# Altium footprint library PCBLib.PcbLib: 43 footprints (part 1 of 3)
Each footprint in its own frame and in the unit in brackets; x right, y up, seen from the top. Pads: shape width x height; smd on the part's side, far side on the other; paste and mask are expansions set on the pad; w line width, h text height; cw(c..) or ccw(c..) is an arc to the next point about the centre after c.
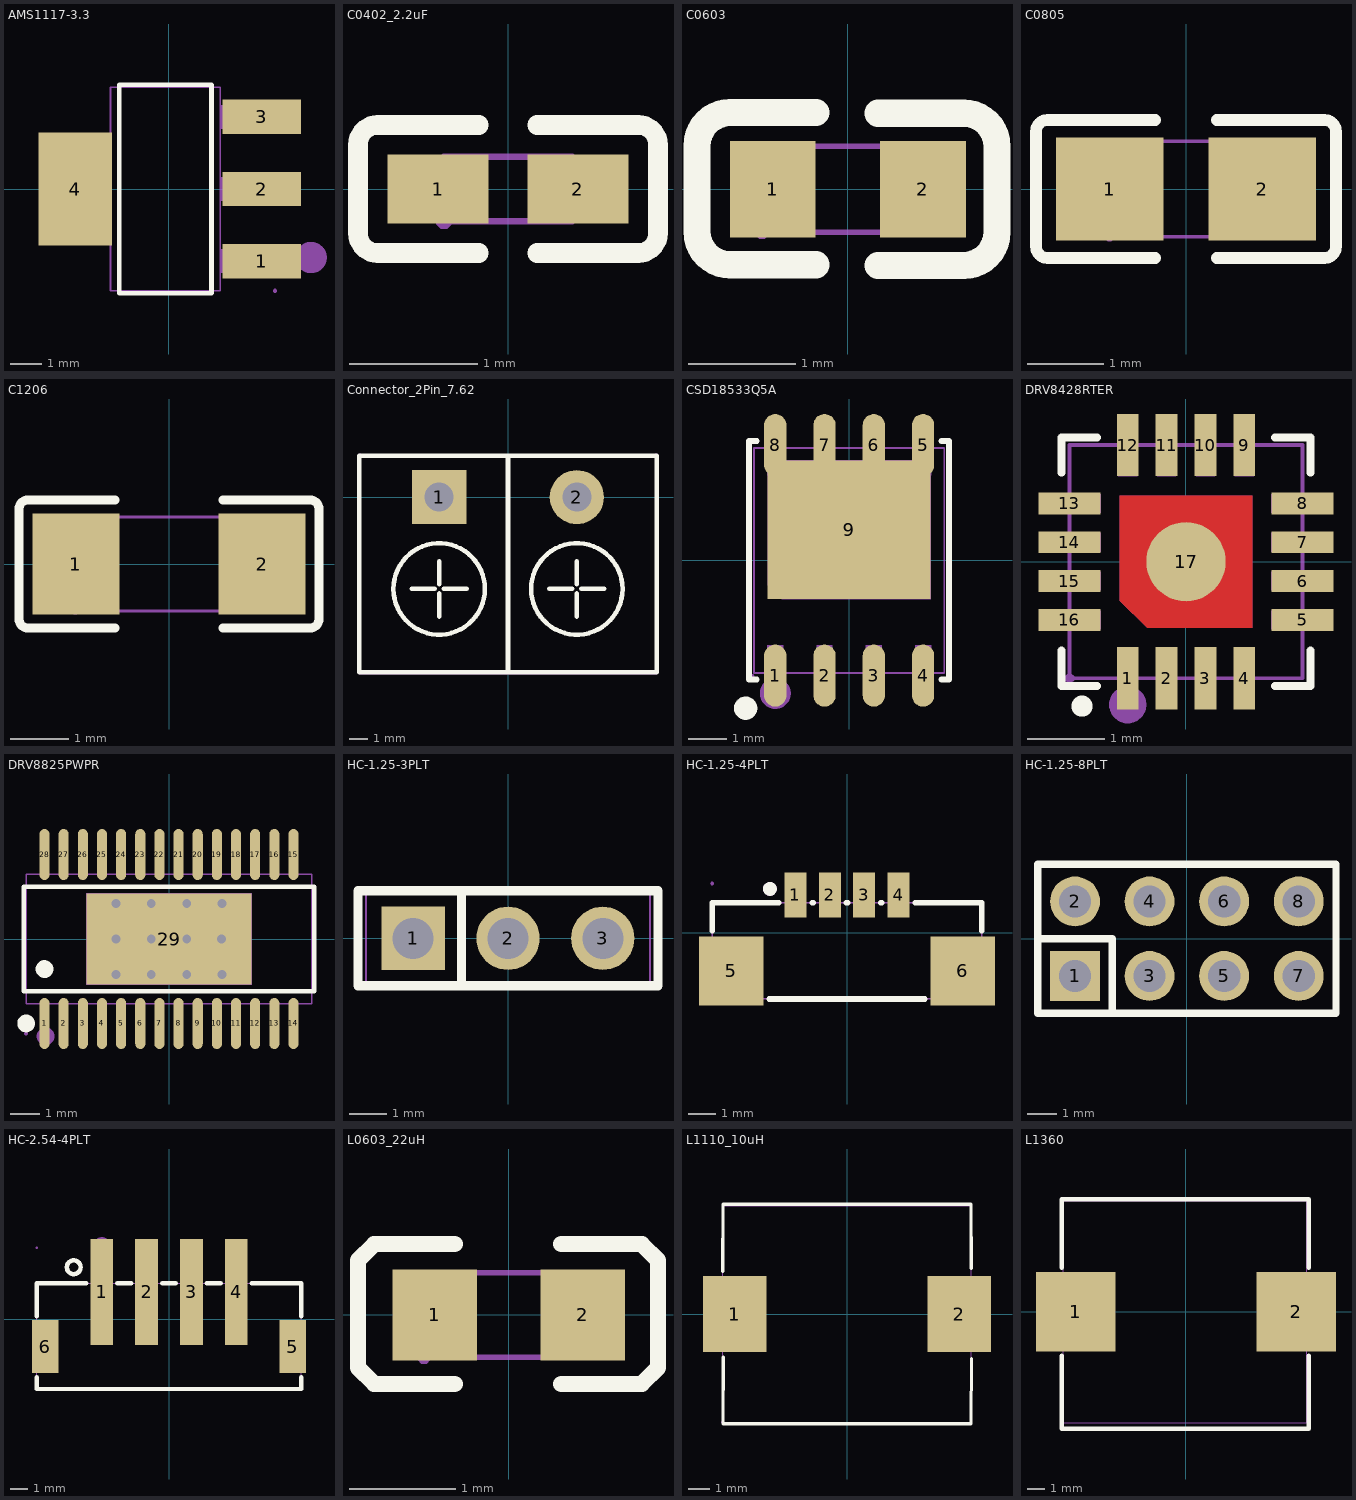
[diagram p0: the footprints below, top view; thin cyan lines are the x and y axes]

## AMS1117-3.3 [mm] "SOT-223-3_L6.5-W3.4-P2.30-LS7.0-BR"
pads (4):
  rect 2.5x1.1 smd: 1(2.97,-2.3) 2(2.97,0) 3(2.97,2.3)
  rect 2.34x3.6 smd: 4(-2.97,0)
Top Overlay:
  lines w0.152: -1.571,-3.326 -1.571,3.326 1.371,3.326 1.371,-3.326 -1.571,-3.326
Mechanical 6:
  circle w0.5: c4.552,-2.188 r0.25
Mechanical 15:
  region: 3.46,-3.25 3.46,-3.225 3.425,-3.19 3.375,-3.19 3.34,-3.225 3.34,-3.25 3.34,-3.275 3.375,-3.31 3.425,-3.31 3.46,-3.275 3.46,-3.25
  region: 1.64,1.925 1.64,2.675 2.66,2.675 2.66,1.925
  region: 2.65,1.925 2.65,2.675 3.4,2.675 3.4,1.925
  region: 1.64,-0.375 1.64,0.375 2.66,0.375 2.66,-0.375
  region: 2.65,-0.375 2.65,0.375 3.4,0.375 3.4,-0.375
  region: 1.64,-2.675 1.64,-1.925 2.66,-1.925 2.66,-2.675
  region: 2.65,-2.675 2.65,-1.925 3.4,-1.925 3.4,-2.675
  region: -2.86,-1.5 -2.86,1.5 -1.84,1.5 -1.84,-1.5
  region: -3.6,-1.5 -3.6,1.5 -2.85,1.5 -2.85,-1.5
  lines w0.051: -1.85,-3.25 -1.85,3.25 1.65,3.25 1.65,-3.25 -1.85,-3.25

## C0402_2.2uF [mm] "C0402"
pads (2):
  rect 0.79x0.54 smd paste-100 mask+0.051: 1(-0.545,0) 2(0.545,0)
Top Overlay:
  lines w0.152: -0.226,-0.499 -1.016,-0.499 cw(c-1.016,-0.346) -1.169,-0.346 -1.169,0.346 cw(c-1.016,0.346) -1.016,0.499 -0.226,0.499 ; 0.226,-0.499 1.016,-0.499 ccw(c1.016,-0.346) 1.169,-0.346 1.169,0.346 ccw(c1.016,0.346) 1.016,0.499 0.226,0.499
Top Paste:
  region: 0.78,0.225 0.78,-0.225 0.73,-0.275 0.25,-0.275 0.18,-0.225 0.18,0.225 0.25,0.275 0.73,0.275
  region: -0.18,0.225 -0.18,-0.225 -0.25,-0.275 -0.73,-0.275 -0.78,-0.225 -0.78,0.225 -0.73,0.275 -0.25,0.275
Mechanical 15:
  region: 0.5,-0.25 0.5,0.25 0.25,0.25 0.25,-0.25
  region: -0.5,-0.25 -0.5,0.25 -0.25,0.25 -0.25,-0.25
  region: -0.44,-0.25 -0.44,-0.225 -0.475,-0.19 -0.525,-0.19 -0.56,-0.225 -0.56,-0.25 -0.56,-0.275 -0.525,-0.31 -0.475,-0.31 -0.44,-0.275 -0.44,-0.25
  lines w0.051: -0.5,-0.25 0.5,-0.25 0.5,0.25 -0.5,0.25 -0.5,-0.25

## C0603 [mm] "C0603"
pads (2):
  rect 0.8x0.9 smd: 1(-0.7,0) 2(0.7,0)
Top Overlay:
  lines w0.254: -0.296,-0.704 -1.096,-0.704 cw(c-1.096,-0.394) -1.406,-0.394 -1.405,0.406 cw(c-1.096,0.406) -1.096,0.715 -0.296,0.715 ; 0.28,-0.71 1.08,-0.71 ccw(c1.08,-0.4) 1.39,-0.4 1.39,0.4 ccw(c1.08,0.4) 1.08,0.71 0.28,0.71
Mechanical 15:
  region: -0.74,-0.4 -0.74,-0.375 -0.775,-0.34 -0.825,-0.34 -0.86,-0.375 -0.86,-0.4 -0.86,-0.425 -0.825,-0.46 -0.775,-0.46 -0.74,-0.425 -0.74,-0.4
  region: -0.8,-0.4 -0.8,0.4 -0.5,0.4 -0.5,-0.4
  region: 0.8,-0.4 0.8,0.4 0.5,0.4 0.5,-0.4
  lines w0.051: -0.8,-0.4 -0.8,0.4 0.8,0.4 0.8,-0.4 -0.8,-0.4

## C0805 [mm] "C0805"
pads (2):
  rect 1.41x1.35 smd paste-100 mask+0.051: 1(-1,0) 2(1,0)
Top Overlay:
  lines w0.152: -0.401,-0.904 -1.811,-0.904 cw(c-1.811,-0.751) -1.964,-0.751 -1.964,0.751 cw(c-1.811,0.751) -1.811,0.904 -0.401,0.904 ; 0.401,-0.904 1.811,-0.904 ccw(c1.811,-0.751) 1.964,-0.751 1.964,0.751 ccw(c1.811,0.751) 1.811,0.904 0.401,0.904
Top Paste:
  region: -1.705,-0.64 -1.705,0.64 -1.655,0.69 -0.505,0.69 -0.455,0.64 -0.45,0.23 -0.9,0.23 -0.9,-0.22 -0.46,-0.22 -0.455,-0.64 -0.505,-0.69 -1.655,-0.69
  region: 1.705,0.64 1.705,-0.64 1.655,-0.69 0.505,-0.69 0.455,-0.64 0.45,-0.23 0.9,-0.23 0.9,0.22 0.46,0.22 0.455,0.64 0.505,0.69 1.655,0.69
Mechanical 15:
  region: -0.94,-0.625 -0.941,-0.601 -0.976,-0.568 -1.024,-0.568 -1.059,-0.601 -1.06,-0.625 -1.059,-0.649 -1.024,-0.683 -0.976,-0.683 -0.941,-0.649 -0.94,-0.625
  region: -1,-0.625 -1,0.625 -0.5,0.625 -0.5,-0.625
  region: 1,0.625 1,-0.625 0.5,-0.625 0.5,0.625
  lines w0.051: -1,-0.625 -1,0.625 1,0.625 1,-0.625 -1,-0.625

## C1206 [mm] "C1206"
pads (2):
  rect 1.485x1.728 smd paste-100 mask+0.051: 1(-1.593,0) 2(1.593,0)
Top Overlay:
  lines w0.152: -0.926,-1.093 -2.411,-1.093 cw(c-2.411,-0.94) -2.564,-0.94 -2.564,0.94 cw(c-2.411,0.94) -2.411,1.093 -0.926,1.093 ; 0.926,-1.093 2.411,-1.093 ccw(c2.411,-0.94) 2.564,-0.94 2.564,0.94 ccw(c2.411,0.94) 2.411,1.093 0.926,1.093
Top Paste:
  region: 0.85,-0.764 0.85,-0.394 0.95,-0.294 1.255,-0.294 1.355,-0.194 1.355,0.194 1.255,0.294 0.95,0.294 0.85,0.394 0.85,0.764 0.95,0.864 2.235,0.864 2.335,0.764 2.335,-0.764 2.235,-0.864 0.95,-0.864
  region: -0.85,-0.764 -0.85,-0.394 -0.95,-0.294 -1.255,-0.294 -1.355,-0.194 -1.355,0.194 -1.255,0.294 -0.95,0.294 -0.85,0.394 -0.85,0.764 -0.95,0.864 -2.235,0.864 -2.335,0.764 -2.335,-0.764 -2.235,-0.864 -0.95,-0.864
Mechanical 15:
  region: -1.54,-0.8 -1.541,-0.776 -1.576,-0.742 -1.624,-0.742 -1.659,-0.776 -1.66,-0.8 -1.659,-0.824 -1.624,-0.858 -1.576,-0.858 -1.541,-0.824 -1.54,-0.8
  region: -1.6,-0.8 -1.6,0.8 -1.1,0.8 -1.1,-0.8
  region: 1.6,-0.8 1.6,0.8 1.1,0.8 1.1,-0.8
  lines w0.051: -1.6,-0.8 -1.6,0.8 1.6,0.8 1.6,-0.8 -1.6,-0.8

## Connector_2Pin_7.62 [mm] "CONN-TH_KF7.62-2P"
pads (2):
  rect 3x3 hole 1.6: 1(-3.81,0)
  round 3 hole 1.6: 2(3.81,0)
Top Overlay:
  circle w0.254: c3.81,-5.08 r2.53
  circle w0.254: c-3.81,-5.08 r2.53
  lines w0.254: -5.334,-5.08 -4.064,-5.08 ; -3.81,-6.604 -3.81,-5.334 ; -3.81,-4.826 -3.81,-3.556 ; -3.556,-5.08 -2.286,-5.08 ; 0,-9.7 0,2.159 ; 2.286,-5.08 3.556,-5.08 ; 3.81,-6.604 3.81,-5.334 ; 3.81,-4.826 3.81,-3.556 ; 4.064,-5.08 5.334,-5.08 ; -8.22,-9.7 8.22,-9.7 8.22,2.3 -8.22,2.3 -8.22,-9.7
Mechanical 6:
  region: -8.14,2.22 -8.14,-9.63 -0.03,-9.63 0,-9.6 0,-9.8 -8.2,-9.8 -8.3,-9.7 -8.3,2.35 -8.25,2.4 -8.15,2.4
  region: 8.14,2.22 8.14,-9.63 0.03,-9.63 0,-9.6 0,-9.8 8.2,-9.8 8.3,-9.7 8.3,2.35 8.25,2.4 8.15,2.4
Mechanical 15:
  region: -4.31,0.35 -3.31,0.35 -3.31,-0.35 -4.31,-0.35
  region: 3.31,0.35 4.31,0.35 4.31,-0.35 3.31,-0.35
  region: -8.16,-9.7 -8.161,-9.676 -8.196,-9.642 -8.244,-9.642 -8.279,-9.676 -8.28,-9.7 -8.279,-9.724 -8.244,-9.758 -8.196,-9.758 -8.161,-9.724 -8.16,-9.7
  lines w0.051: -8.22,-9.7 -8.22,2.3 8.22,2.3 8.22,-9.7 -8.22,-9.7

## CSD18533Q5A [mm] "PQFN-8_L5.8-W4.9-P1.27-LS6.0-BL"
pads (9):
  oval 0.574x1.6 smd paste-100 mask+0.051: 1(-1.905,-2.97) 2(-0.635,-2.97) 3(0.635,-2.97) 4(1.905,-2.97) 5(1.905,2.97) 6(0.635,2.97) 7(-0.635,2.97) 8(-1.905,2.97)
  rect 4.2x3.58 smd paste-100 mask+0.051: 9(0,0.788)
Top Overlay:
  circle w0.3: c-2.667,-3.81 r0.15
  lines w0.152: -2.382,-3.076 -2.576,-3.076 -2.576,3.076 -2.382,3.076 ; 2.382,-3.076 2.576,-3.076 2.576,3.076 2.382,3.076
Top Paste:
  drawing of 5 lines, arcs and shapes, not listed
Mechanical 6:
  circle w0.4: c-1.905,-3.429 r0.2
Mechanical 15:
  region: -2.1,-0.644 -2.1,2.578 2.1,2.578 2.1,-1.002 -1.742,-1.002
  region: -2.11,3 -2.11,2.195 -1.7,2.195 -1.7,3
  region: -0.84,3 -0.84,2.195 -0.43,2.195 -0.43,3
  region: 0.43,3 0.43,2.195 0.84,2.195 0.84,3
  region: 1.7,3 1.7,2.195 2.11,2.195 2.11,3
  region: 1.7,-3 1.7,-2.195 2.11,-2.195 2.11,-3
  region: 0.43,-3 0.43,-2.195 0.84,-2.195 0.84,-3
  region: -0.84,-3 -0.84,-2.195 -0.43,-2.195 -0.43,-3
  region: -2.11,-3 -2.11,-2.195 -1.7,-2.195 -1.7,-3
  region: -2.44,-3 -2.44,-2.976 -2.475,-2.941 -2.524,-2.941 -2.559,-2.976 -2.56,-3 -2.559,-3.024 -2.524,-3.059 -2.475,-3.059 -2.44,-3.024 -2.44,-3
  lines w0.051: -2.45,-2.9 2.45,-2.9 2.45,2.9 -2.45,2.9 -2.45,-2.9

## DRV8428RTER [mm] "WQFN-16_L3.0-W3.0-P0.50-BL-EP1.7"
pads (17):
  rect 0.28x0.8 smd paste-100 mask+0.051: 1(-0.75,-1.5) 2(-0.25,-1.5) 3(0.25,-1.5) 4(0.75,-1.5) 9(0.75,1.5) 10(0.25,1.5) 11(-0.25,1.5) 12(-0.75,1.5)
  rect 0.8x0.28 smd paste-100 mask+0.051: 5(1.5,-0.75) 6(1.5,-0.25) 7(1.5,0.25) 8(1.5,0.75) 13(-1.5,0.75) 14(-1.5,0.25) 15(-1.5,-0.25) 16(-1.5,-0.75)
  round 1.02 smd: 17(0,0)
Top Layer:
  region: -0.85,0.85 0.85,0.85 0.85,-0.85 -0.5,-0.85 -0.85,-0.5
Top Overlay:
  lines w0.102: -1.6,-1.144 -1.6,-1.6 -1.144,-1.6 ; -1.6,1.144 -1.6,1.6 -1.144,1.6 ; 1.144,-1.6 1.6,-1.6 1.6,-1.144 ; 1.144,1.6 1.6,1.6 1.6,1.144
  lines w0.25: -1.34,-1.85 ccw(c-1.339,-1.86) -1.339,-1.87 ccw(c-1.339,-1.86) -1.337,-1.85
Top Paste:
  region: -0.89,-1.1 -0.61,-1.1 -0.61,-1.9 -0.89,-1.9
  region: -0.39,-1.1 -0.11,-1.1 -0.11,-1.9 -0.39,-1.9
  region: 0.11,-1.1 0.39,-1.1 0.39,-1.9 0.11,-1.9
  region: 0.61,-1.1 0.89,-1.1 0.89,-1.9 0.61,-1.9
  region: 1.1,-0.61 1.9,-0.61 1.9,-0.89 1.1,-0.89
  region: 1.1,-0.11 1.9,-0.11 1.9,-0.39 1.1,-0.39
  region: 1.1,0.39 1.9,0.39 1.9,0.11 1.1,0.11
  region: 1.1,0.89 1.9,0.89 1.9,0.61 1.1,0.61
  region: 0.61,1.9 0.89,1.9 0.89,1.1 0.61,1.1
  region: 0.11,1.9 0.39,1.9 0.39,1.1 0.11,1.1
  region: -0.39,1.9 -0.11,1.9 -0.11,1.1 -0.39,1.1
  region: -0.89,1.9 -0.61,1.9 -0.61,1.1 -0.89,1.1
  region: -1.9,0.89 -1.1,0.89 -1.1,0.61 -1.9,0.61
  region: -1.9,0.39 -1.1,0.39 -1.1,0.11 -1.9,0.11
  region: -1.9,-0.11 -1.1,-0.11 -1.1,-0.39 -1.9,-0.39
  region: -1.9,-0.61 -1.1,-0.61 -1.1,-0.89 -1.9,-0.89
  region: -0.68,0.68 0.68,0.68 0.68,-0.68 -0.4,-0.68 -0.68,-0.4
Mechanical 6:
  circle w0.24: c-0.75,-1.84 r0.12
Mechanical 15:
  region: -1.5,-0.87 -1.5,-0.63 -1.1,-0.63 -1.1,-0.87
  region: -1.5,-0.37 -1.5,-0.13 -1.1,-0.13 -1.1,-0.37
  region: -1.5,0.13 -1.5,0.37 -1.1,0.37 -1.1,0.13
  region: -1.5,0.63 -1.5,0.87 -1.1,0.87 -1.1,0.63
  region: -0.87,1.1 -0.87,1.5 -0.63,1.5 -0.63,1.1
  region: -0.37,1.1 -0.37,1.5 -0.13,1.5 -0.13,1.1
  region: 0.13,1.1 0.13,1.5 0.37,1.5 0.37,1.1
  region: 0.63,1.1 0.63,1.5 0.87,1.5 0.87,1.1
  region: 1.1,0.63 1.1,0.87 1.5,0.87 1.5,0.63
  region: 1.1,0.13 1.1,0.37 1.5,0.37 1.5,0.13
  region: 1.1,-0.37 1.1,-0.13 1.5,-0.13 1.5,-0.37
  region: 1.1,-0.87 1.1,-0.63 1.5,-0.63 1.5,-0.87
  region: 0.63,-1.5 0.63,-1.1 0.87,-1.1 0.87,-1.5
  region: 0.13,-1.5 0.13,-1.1 0.37,-1.1 0.37,-1.5
  region: -0.37,-1.5 -0.37,-1.1 -0.13,-1.1 -0.13,-1.5
  region: -0.87,-1.5 -0.87,-1.1 -0.63,-1.1 -0.63,-1.5
  region: -0.85,0.85 0.85,0.85 0.85,-0.85 -0.5,-0.85 -0.85,-0.5
  region: -1.44,-1.5 -1.441,-1.476 -1.476,-1.442 -1.524,-1.442 -1.559,-1.476 -1.56,-1.5 -1.559,-1.524 -1.524,-1.558 -1.476,-1.558 -1.441,-1.524 -1.44,-1.5
  lines w0.051: -1.5,-1.5 -1.5,1.5 1.5,1.5 1.5,-1.5 -1.5,-1.5

## DRV8825PWPR [mm] "HTSSOP-28_L9.7-W4.4-P0.65-LS6.4-BL-EP"
pads (29):
  oval 0.343x1.731 smd: 1(-4.225,-2.866) 2(-3.575,-2.866) 3(-2.925,-2.866) 4(-2.275,-2.866) 5(-1.625,-2.866) 6(-0.975,-2.866) 7(-0.325,-2.866) 8(0.325,-2.866) 9(0.975,-2.866) 10(1.625,-2.866) 11(2.275,-2.866) 12(2.925,-2.866) 13(3.575,-2.866) 14(4.225,-2.866) 15(4.225,2.866) 16(3.575,2.866) 17(2.925,2.866) 18(2.275,2.866) 19(1.625,2.866) 20(0.975,2.866) 21(0.325,2.866) 22(-0.325,2.866) 23(-0.975,2.866) 24(-1.625,2.866) 25(-2.275,2.866) 26(-2.925,2.866) 27(-3.575,2.866) 28(-4.225,2.866)
  rect 5.6x3.1 smd paste+0 mask+0.05: 29(0,0)
via 1.8,1.2 diameter 0.5 hole 0.3
via 0.6,1.2 diameter 0.5 hole 0.3
via 1.778,0 diameter 0.5 hole 0.3
via 0.6,0 diameter 0.5 hole 0.3
via -1.8,1.2 diameter 0.5 hole 0.3
via -1.8,0 diameter 0.5 hole 0.3
via -1.8,-1.2 diameter 0.5 hole 0.3
via -0.6,1.2 diameter 0.5 hole 0.3
via -0.6,-1.2 diameter 0.5 hole 0.3
via 0.6,-1.2 diameter 0.5 hole 0.3
via -0.6,0 diameter 0.5 hole 0.3
via 1.8,-1.2 diameter 0.5 hole 0.3
Top Overlay:
  circle w0.3: c-4.849,-2.866 r0.15
  circle w0.3: c-4.225,-1.019 r0.15
  lines w0.152: -4.926,-1.771 4.926,-1.771 4.926,1.772 -4.926,1.772 -4.926,-1.771
Mechanical 6:
  circle w0.3: c-4.191,-3.302 r0.15
Mechanical 15:
  drawing of 62 lines, arcs and shapes, not listed

## HC-1.25-3PLT [mm] "HDR-TH_3P-P2.54-V-M"
pads (3):
  rect 1.7x1.7 hole 1.1: 1(-2.54,0)
  round 1.7 hole 1.1: 2(0,0) 3(2.54,0)
Top Overlay:
  lines w0.254: -1.246,-1.27 -1.246,1.27 ; -4.02,-1.27 4.02,-1.27 4.02,1.27 -4.02,1.27 -4.02,-1.27
Mechanical 15:
  region: -3.75,-1.25 -3.751,-1.226 -3.786,-1.192 -3.834,-1.192 -3.869,-1.226 -3.87,-1.25 -3.869,-1.274 -3.834,-1.308 -3.786,-1.308 -3.751,-1.274 -3.75,-1.25
  region: 2.22,0.32 2.86,0.32 2.86,-0.32 2.22,-0.32
  region: -0.32,0.32 0.32,0.32 0.32,-0.32 -0.32,-0.32
  region: -2.86,0.32 -2.22,0.32 -2.22,-0.32 -2.86,-0.32
  lines w0.051: -3.81,-1.25 -3.81,1.25 3.81,1.25 3.81,-1.25 -3.81,-1.25

## HC-1.25-4PLT [mm] "CONN-SMD_4P-P1.25_HCTL_HC-1.25-4PLT"
pads (6):
  rect 0.8x1.62 smd paste+0 mask+0.05: 1(-1.875,1.38) 2(-0.625,1.38) 3(0.625,1.38) 4(1.875,1.38)
  rect 2.35x2.5 smd paste+0 mask+0.05: 5(-4.2,-1.38) 6(4.2,-1.38)
Top Overlay:
  circle w0.254: c-2.8,1.6 r0.127
  lines w0.2: -4.9,0.074 -4.9,1.1 -2.479,1.1 ; -2.821,-2.4 2.821,-2.4 ; -1.271,1.1 -1.229,1.1 ; -0.021,1.1 0.021,1.1 ; 1.229,1.1 1.271,1.1 ; 2.479,1.1 4.9,1.1 4.9,0.074
Mechanical 6:
  circle w0.254: c-2.8,1.6 r0.127
Mechanical 15:
  region: -4.9,-0.7 -3.35,-0.7 -3.35,-2.4 -4.9,-2.4
  region: 3.35,-0.7 4.9,-0.7 4.9,-2.4 3.35,-2.4
  region: -2.025,1.8 -1.725,1.8 -1.725,1 -2.025,1
  region: -0.775,1.8 -0.475,1.8 -0.475,1 -0.775,1
  region: 0.475,1.8 0.775,1.8 0.775,1 0.475,1
  region: 1.725,1.8 2.025,1.8 2.025,1 1.725,1
  region: -4.84,1.8 -4.841,1.825 -4.876,1.859 -4.925,1.859 -4.959,1.825 -4.96,1.8 -4.959,1.776 -4.924,1.741 -4.876,1.741 -4.841,1.776 -4.84,1.8
  lines w0.051: -4.9,-2.4 -4.9,-2.3 -4.9,1.1 4.9,1.1 4.9,-2.4 -4.9,-2.4

## HC-1.25-8PLT [mm] "HDR-TH_8P-P2.54-V-M-R2-C4-S2.54"
pads (8):
  rect 1.7x1.7 hole 1.1: 1(-3.81,-1.27)
  round 1.7 hole 1.1: 2(-3.81,1.27) 3(-1.27,-1.27) 4(-1.27,1.27) 5(1.27,-1.27) 6(1.27,1.27) 7(3.81,-1.27) 8(3.81,1.27)
Top Overlay:
  lines w0.254: -5.08,0 -2.54,0 -2.54,-2.54 ; 5.07,2.54 -5.08,2.54 -5.08,-2.54 5.08,-2.54 5.08,2.54
Mechanical 15:
  region: -4.13,-0.95 -3.49,-0.95 -3.49,-1.59 -4.13,-1.59
  region: -4.13,1.59 -3.49,1.59 -3.49,0.95 -4.13,0.95
  region: -1.59,-0.95 -0.95,-0.95 -0.95,-1.59 -1.59,-1.59
  region: -1.59,1.59 -0.95,1.59 -0.95,0.95 -1.59,0.95
  region: 0.95,-0.95 1.59,-0.95 1.59,-1.59 0.95,-1.59
  region: 0.95,1.59 1.59,1.59 1.59,0.95 0.95,0.95
  region: 3.49,-0.95 4.13,-0.95 4.13,-1.59 3.49,-1.59
  region: 3.49,1.59 4.13,1.59 4.13,0.95 3.49,0.95
  region: -5.02,-2.5 -5.02,-2.475 -5.055,-2.44 -5.105,-2.44 -5.14,-2.475 -5.14,-2.5 -5.14,-2.525 -5.105,-2.56 -5.055,-2.56 -5.02,-2.525 -5.02,-2.5
  lines w0.051: -5.08,-2.5 5.08,-2.5 5.08,2.5 -5.08,2.5 -5.08,-2.5

## HC-2.54-4PLT [mm] "CONN-SMD_4P-P2.54_C9900012758"
pads (6):
  rect 1.3x6 smd: 1(-3.81,1.55) 2(-1.27,1.55) 3(1.27,1.55) 4(3.81,1.55)
  rect 1.5x3 smd: 5(7,-1.55) 6(-7,-1.55)
Top Overlay:
  circle w0.254: c-5.4,2.95 r0.39
  lines w0.254: -7.5,-3.281 -7.5,-3.95 7.5,-3.95 7.5,-3.281 ; -7.5,0.181 -7.5,2.05 -4.691,2.05 ; -2.929,2.05 -2.151,2.05 ; -0.389,2.05 0.389,2.05 ; 2.151,2.05 2.929,2.05 ; 4.691,2.05 7.5,2.05 7.5,0.181
Mechanical 6:
  circle w0.5: c-3.8,4.15 r0.25
Mechanical 15:
  region: 6.7,-0.68 7.3,-0.68 7.3,-2.68 6.7,-2.68
  region: -7.3,-0.68 -6.7,-0.68 -6.7,-2.68 -7.3,-2.68
  region: 3.51,4.05 4.11,4.05 4.11,-1.15 3.51,-1.15
  region: 0.97,4.05 1.57,4.05 1.57,-1.15 0.97,-1.15
  region: -1.57,4.05 -0.97,4.05 -0.97,-1.15 -1.57,-1.15
  region: -4.11,4.05 -3.51,4.05 -3.51,-1.15 -4.11,-1.15
  region: -7.44,4.05 -7.441,4.074 -7.476,4.108 -7.524,4.107 -7.559,4.074 -7.56,4.05 -7.559,4.026 -7.524,3.992 -7.476,3.992 -7.441,4.026 -7.44,4.05
  lines w0.051: -7.5,-3.95 7.5,-3.95 7.5,2.05 -7.5,2.05 -7.5,-3.95

## L0603_22uH [mm] "L0603"
pads (2):
  rect 0.8x0.864 smd paste-100 mask+0.051: 1(-0.7,0) 2(0.7,0)
Top Overlay:
  lines w0.152: -0.51,-0.651 -1.272,-0.651 -1.424,-0.499 -1.424,0.517 -1.272,0.67 -0.51,0.67 ; 0.496,-0.651 1.258,-0.651 1.411,-0.499 1.411,0.517 1.258,0.67 0.496,0.67
Top Paste:
  region: -0.252,0.143 -0.252,-0.134 -0.526,-0.427 -1.029,-0.427 -1.093,-0.363 -1.093,0.373 -1.029,0.437 -0.526,0.437
  region: 0.264,0.154 0.264,-0.122 0.538,-0.416 1.042,-0.416 1.106,-0.352 1.106,0.384 1.042,0.448 0.538,0.448
Mechanical 15:
  region: -0.74,-0.4 -0.74,-0.376 -0.775,-0.341 -0.824,-0.341 -0.859,-0.375 -0.86,-0.4 -0.859,-0.424 -0.825,-0.459 -0.776,-0.459 -0.741,-0.424 -0.74,-0.4
  region: 0.8,-0.4 0.5,-0.4 0.5,0.4 0.8,0.4
  region: -0.5,-0.4 -0.8,-0.4 -0.8,0.4 -0.5,0.4
  lines w0.051: -0.8,-0.4 0.8,-0.4 0.8,0.4 -0.8,0.4 -0.8,-0.4

## L1110_10uH [mm] "IND-SMD_L11.5-W10.0_SMMS1040"
pads (2):
  rect 2.924x3.5 smd: 1(-5.18,0) 2(5.18,0)
Top Overlay:
  lines w0.152: -5.74,1.981 -5.726,5.076 5.726,5.076 5.736,2.102 ; -5.713,-1.993 -5.726,-5.076 5.726,-5.076 5.754,-2.055
Mechanical 15:
  region: -5.69,-5 -5.691,-4.976 -5.726,-4.942 -5.774,-4.942 -5.809,-4.976 -5.81,-5 -5.809,-5.024 -5.774,-5.058 -5.726,-5.058 -5.691,-5.024 -5.69,-5
  region: -3.75,-1.5 -5.75,-1.5 -5.75,1.5 -3.75,1.5
  region: 5.75,-1.5 3.75,-1.5 3.75,1.5 5.75,1.5
  lines w0.051: -5.75,-5 -5.75,5 5.75,5 5.75,-5 -5.75,-5

## L1360 [mm] "IND-SMD_L13.8-W12.6"
pads (2):
  rect 4.5x4.5 smd: 1(-6.25,0) 2(6.25,0)
Top Overlay:
  lines w0.254: -7.051,-6.625 6.949,-6.625 6.95,-2.481 ; -7.05,-6.625 -7.05,-2.481 ; -7.05,2.481 -7.05,6.373 6.95,6.373 6.95,2.481
Mechanical 15:
  region: -6.89,-6.3 -6.891,-6.276 -6.926,-6.242 -6.974,-6.242 -7.009,-6.276 -7.01,-6.3 -7.009,-6.324 -6.974,-6.358 -6.926,-6.358 -6.891,-6.324 -6.89,-6.3
  region: 6.85,1.85 6.85,-1.85 4.35,-1.85 4.35,1.85
  region: -4.45,1.85 -4.45,-1.85 -6.95,-1.85 -6.95,1.85
  lines w0.051: -6.95,-6.3 -6.95,6.3 6.85,6.3 6.85,-6.3 -6.95,-6.3